# EAGLE library part DP83848JSQ/NOPB (library textas)
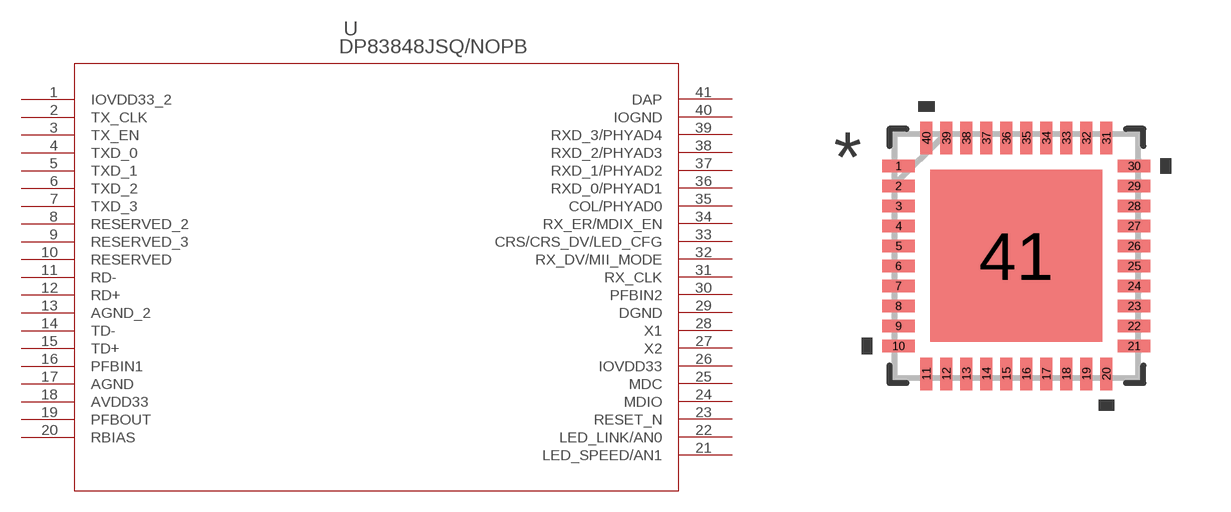
[diagram p0: symbol with the pads of SQA40B; footprint SQA40B]

Designator prefix U

## DP83848JSQ/NOPB (COPYRIGHT: Copyright C 2015 Accelerated Designs. All rights reserved; MANUFACTURER_PART_NUMBER: dp83848jsqnopb; VENDOR: National Semiconductor)  [SQA40B]
1  IOVDD33_2  pwr
2  TX_CLK  out
3  TX_EN  in
4  TXD_0  in
5  TXD_1  in
6  TXD_2  in
7  TXD_3  in
8  RESERVED_2
9  RESERVED_3
10  RESERVED
11  RD-
12  RD+
13  AGND_2  pwr
14  TD-
15  TD+
16  PFBIN1  in
17  AGND  pwr
18  AVDD33  pwr
19  PFBOUT  out
20  RBIAS  in
21  LED_SPEED/AN1  out
22  LED_LINK/AN0  out
23  RESET_N  in
24  MDIO
25  MDC  in
26  IOVDD33  pwr
27  X2  out
28  X1  in
29  DGND  pwr
30  PFBIN2  in
31  RX_CLK  out
32  RX_DV/MII_MODE  out
33  CRS/CRS_DV/LED_CFG  out
34  RX_ER/MDIX_EN  out
35  COL/PHYAD0  out
36  RXD_0/PHYAD1  out
37  RXD_1/PHYAD2  out
38  RXD_2/PHYAD3  out
39  RXD_3/PHYAD4  out
40  IOGND  pwr
41  DAP  pas

## Footprint SQA40B (pad centres in mm)
smd 0.813 x 0.305: 1 -2.946,2.25; 2 -2.946,1.75; 3 -2.946,1.25; 4 -2.946,0.75; 5 -2.946,0.25; 6 -2.946,-0.25; 7 -2.946,-0.75; 8 -2.946,-1.25; 9 -2.946,-1.75; 10 -2.946,-2.25; 21 2.946,-2.25; 22 2.946,-1.75; 23 2.946,-1.25; 24 2.946,-0.75; 25 2.946,-0.25; 26 2.946,0.25; 27 2.946,0.75; 28 2.946,1.25; 29 2.946,1.75; 30 2.946,2.25
smd 0.305 x 0.813: 11 -2.25,-2.946; 12 -1.75,-2.946; 13 -1.25,-2.946; 14 -0.75,-2.946; 15 -0.25,-2.946; 16 0.25,-2.946; 17 0.75,-2.946; 18 1.25,-2.946; 19 1.75,-2.946; 20 2.25,-2.946; 31 2.25,2.946; 32 1.75,2.946; 33 1.25,2.946; 34 0.75,2.946; 35 0.25,2.946; 36 -0.25,2.946; 37 -0.75,2.946; 38 -1.25,2.946; 39 -1.75,2.946; 40 -2.25,2.946
smd 4.3 x 4.3: 41 0,0